# Altium footprint library MTS-1132.PcbLib: 2 footprints
Each footprint in its own frame and in the unit in brackets; x right, y up, seen from the top. Pads: shape width x height; smd on the part's side, far side on the other; paste and mask are expansions set on the pad; w line width, h text height; cw(c..) or ccw(c..) is an arc to the next point about the centre after c.
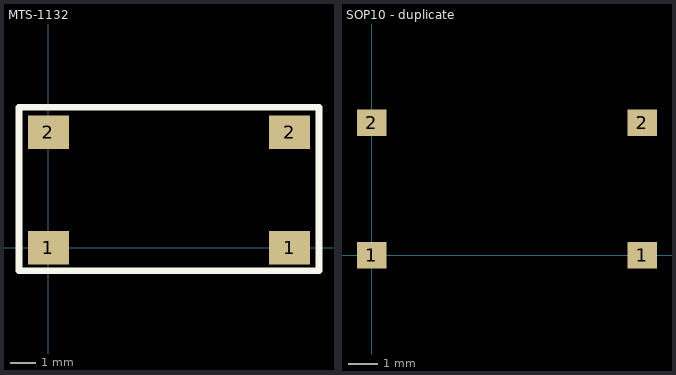
[diagram p0: the footprints below, top view; thin cyan lines are the x and y axes]

## MTS-1132 [mm]
pads (4):
  rect 1.6x1.3 smd: 1(0,0) 1(9.4,0) 2(0,4.5) 2(9.4,4.5)
Top Overlay:
  lines w0.254: -1.143,-0.889 -1.143,5.461 10.541,5.461 10.541,-0.889 -1.143,-0.889

## SOP10 - duplicate [mm]
pads (4):
  rect 1x0.9 smd: 1(0,0) 1(9.2,0) 2(0,4.5) 2(9.2,4.5)